# Altium footprint library PHDR-1X11-TH-M.PcbLib: 1 footprints
Each footprint in its own frame and in the unit in brackets; x right, y up, seen from the top. Pads: shape width x height; smd on the part's side, far side on the other; paste and mask are expansions set on the pad; w line width, h text height; cw(c..) or ccw(c..) is an arc to the next point about the centre after c.
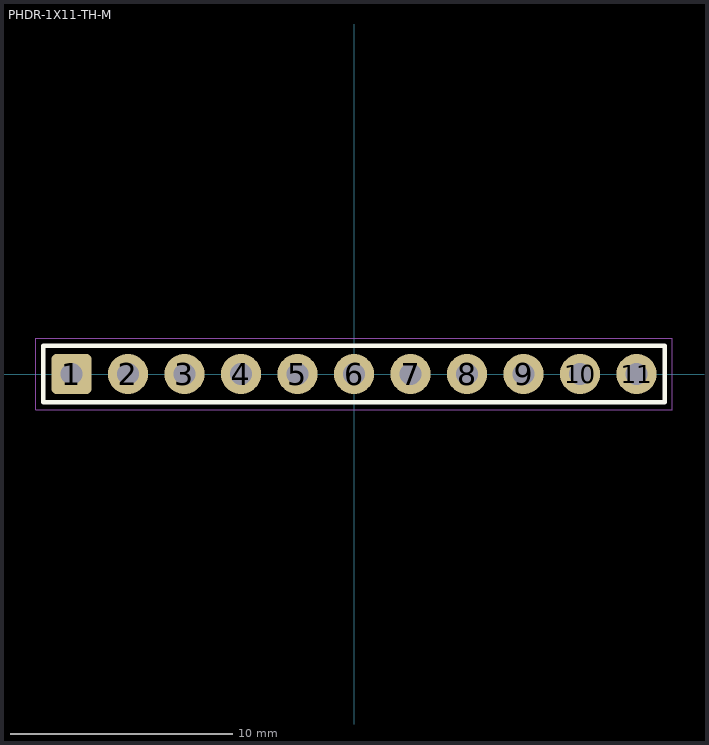
[diagram p0: the footprint, top view; thin cyan lines are the x and y axes]

## PHDR-1X11-TH-M [mm] "Pin Header 1x11 Male TH Pitch 2.54mm"
height 9.5
pads (11):
  rrect25% 1.8x1.8 hole 1: 1(-12.7,0)
  round 1.8 hole 1: 2(-10.16,0) 3(-7.62,0) 4(-5.08,0) 5(-2.54,0) 6(0,0) 7(2.54,0) 8(5.08,0) 9(7.62,0) 10(10.16,0) 11(12.7,0)
Top Overlay:
  lines w0.2: -13.97,-1.27 -13.97,1.27 13.97,1.27 13.97,-1.27 -13.97,-1.27
Top Assembly:
  lines w0.1: -13.97,-1.27 13.97,-1.27 13.97,1.27 -13.97,1.27 -13.97,-1.27
Top Courtyard:
  lines w0.05: -14.3,-1.6 -14.3,1.6 14.3,1.6 14.3,-1.6 -14.3,-1.6
Top Designator:
  text ".Designator" at -7.498,-0.5 h1.5
3D body "Pin Header 1x11 TH Pitch 2.54mm.stp": height 9.5, standoff -3.2, extent -13.97,-1.27 13.97,1.27